# Altium footprint library 0402 Resistor.PcbLib: 1 footprints
Each footprint in its own frame and in the unit in brackets; x right, y up, seen from the top. Pads: shape width x height; smd on the part's side, far side on the other; paste and mask are expansions set on the pad; w line width, h text height; cw(c..) or ccw(c..) is an arc to the next point about the centre after c.
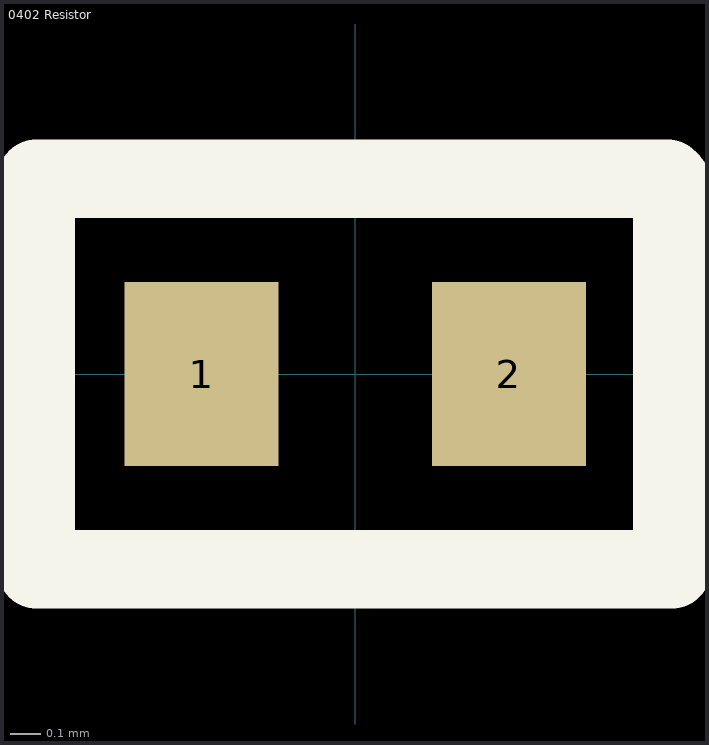
[diagram p0: the footprint, top view; thin cyan lines are the x and y axes]

## 0402 Resistor [mm]
pads (2):
  rect 0.5x0.6 smd: 1(-0.5,0) 2(0.5,0)
Top Overlay:
  lines w0.254: -1.039,-0.635 -1.039,0 -1.039,0.159 -1.039,0.476 -1.039,0.635 ; -1.016,-0.635 1.016,-0.635 ; -1.016,0.635 1.016,0.635 1.031,0.62 1.031,0.318 1.031,-0.318 1.031,-0.635